# Altium integrated library Vishay Roederstein Electrolytic Snap-In Pins Capacitor.IntLib: 936 symbols (part 13 of 16)
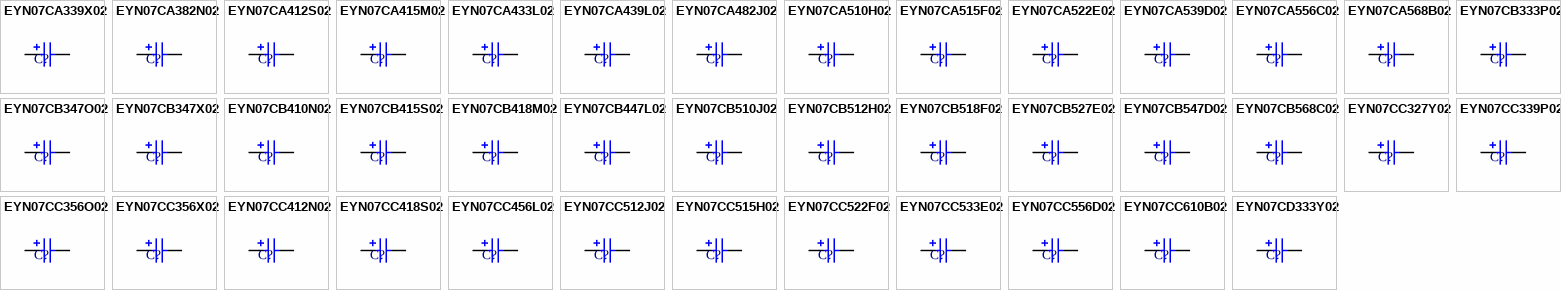
[diagram p35: symbols EYN07CA339X02 to EYN07CD333Y02]

## EYN07CA382N02
designator C?
Aluminum Electrolytic Capacitor, Power Capacitor Style EYN, Snap-in 6mm Solder Pins: 820uF, 250V; PCB_Layout: Complies with Manufacturer's Recommendation.; DrillSize: Nominal, Complies with Manufacturer's Recommendation.; Published: 19-Mar-2004; DatasheetDocument: 4-Feb-2002; PackageReference: CAPPRS10-35X35; Publisher: Altium Limited; ComponentLink1Description: Manufacturer Link; ComponentLink1URL: http://www.vishay.com/; ComponentLink2Description: Datasheet; ComponentLink2URL: http://www.vishay.com/docs/25137/eyn.pdf; Value: 820uF
footprint CAPPRS10-35X35 (Capacitor, Electrolytic, Radial, Snap-In Pins; Body 35 x 35 mm (Dia.xH typ); Pin Spacing 10 mm (typ))
simulation model CAP (Capacitor)
signal-integrity model EYN07CA382N02
pins: 1, 2
1 alternate drawing of the same symbol

## EYN07CA412S02
designator C?
Aluminum Electrolytic Capacitor, Power Capacitor Style EYN, Snap-in 6mm Solder Pins: 1200uF, 200V; PCB_Layout: Complies with Manufacturer's Recommendation.; DrillSize: Nominal, Complies with Manufacturer's Recommendation.; Published: 19-Mar-2004; DatasheetDocument: 4-Feb-2002; PackageReference: CAPPRS10-35X35; Publisher: Altium Limited; ComponentLink1Description: Manufacturer Link; ComponentLink1URL: http://www.vishay.com/; ComponentLink2Description: Datasheet; ComponentLink2URL: http://www.vishay.com/docs/25137/eyn.pdf; Value: 1200uF
footprint CAPPRS10-35X35 (Capacitor, Electrolytic, Radial, Snap-In Pins; Body 35 x 35 mm (Dia.xH typ); Pin Spacing 10 mm (typ))
simulation model CAP (Capacitor)
signal-integrity model EYN07CA412S02
pins: 1, 2
1 alternate drawing of the same symbol

## EYN07CA415M02
designator C?
Aluminum Electrolytic Capacitor, Power Capacitor Style EYN, Snap-in 6mm Solder Pins: 1500uF, 160V; PCB_Layout: Complies with Manufacturer's Recommendation.; DrillSize: Nominal, Complies with Manufacturer's Recommendation.; Published: 19-Mar-2004; DatasheetDocument: 4-Feb-2002; PackageReference: CAPPRS10-35X35; Publisher: Altium Limited; ComponentLink1Description: Manufacturer Link; ComponentLink1URL: http://www.vishay.com/; ComponentLink2Description: Datasheet; ComponentLink2URL: http://www.vishay.com/docs/25137/eyn.pdf; Value: 1500uF
footprint CAPPRS10-35X35 (Capacitor, Electrolytic, Radial, Snap-In Pins; Body 35 x 35 mm (Dia.xH typ); Pin Spacing 10 mm (typ))
simulation model CAP (Capacitor)
signal-integrity model EYN07CA415M02
pins: 1, 2
1 alternate drawing of the same symbol

## EYN07CA433L02
designator C?
Aluminum Electrolytic Capacitor, Power Capacitor Style EYN, Snap-in 6mm Solder Pins: 3300uF, 100V; PCB_Layout: Complies with Manufacturer's Recommendation.; DrillSize: Nominal, Complies with Manufacturer's Recommendation.; Published: 19-Mar-2004; DatasheetDocument: 4-Feb-2002; PackageReference: CAPPRS10-35X35; Publisher: Altium Limited; ComponentLink1Description: Manufacturer Link; ComponentLink1URL: http://www.vishay.com/; ComponentLink2Description: Datasheet; ComponentLink2URL: http://www.vishay.com/docs/25137/eyn.pdf; Value: 3300uF
footprint CAPPRS10-35X35 (Capacitor, Electrolytic, Radial, Snap-In Pins; Body 35 x 35 mm (Dia.xH typ); Pin Spacing 10 mm (typ))
simulation model CAP (Capacitor)
signal-integrity model EYN07CA433L02
pins: 1, 2
1 alternate drawing of the same symbol

## EYN07CA439L02
designator C?
Aluminum Electrolytic Capacitor, Power Capacitor Style EYN, Snap-in 6mm Solder Pins: 3900uF, 100V; PCB_Layout: Complies with Manufacturer's Recommendation.; DrillSize: Nominal, Complies with Manufacturer's Recommendation.; Published: 19-Mar-2004; DatasheetDocument: 4-Feb-2002; PackageReference: CAPPRS10-35X35; Publisher: Altium Limited; ComponentLink1Description: Manufacturer Link; ComponentLink1URL: http://www.vishay.com/; ComponentLink2Description: Datasheet; ComponentLink2URL: http://www.vishay.com/docs/25137/eyn.pdf; Value: 3900uF
footprint CAPPRS10-35X35 (Capacitor, Electrolytic, Radial, Snap-In Pins; Body 35 x 35 mm (Dia.xH typ); Pin Spacing 10 mm (typ))
simulation model CAP (Capacitor)
signal-integrity model EYN07CA439L02
pins: 1, 2
1 alternate drawing of the same symbol

## EYN07CA482J02
designator C?
Aluminum Electrolytic Capacitor, Power Capacitor Style EYN, Snap-in 6mm Solder Pins: 8200uF, 63V; PCB_Layout: Complies with Manufacturer's Recommendation.; DrillSize: Nominal, Complies with Manufacturer's Recommendation.; Published: 19-Mar-2004; DatasheetDocument: 4-Feb-2002; PackageReference: CAPPRS10-35X35; Publisher: Altium Limited; ComponentLink1Description: Manufacturer Link; ComponentLink1URL: http://www.vishay.com/; ComponentLink2Description: Datasheet; ComponentLink2URL: http://www.vishay.com/docs/25137/eyn.pdf; Value: 8200uF
footprint CAPPRS10-35X35 (Capacitor, Electrolytic, Radial, Snap-In Pins; Body 35 x 35 mm (Dia.xH typ); Pin Spacing 10 mm (typ))
simulation model CAP (Capacitor)
signal-integrity model EYN07CA482J02
pins: 1, 2
1 alternate drawing of the same symbol

## EYN07CA510H02
designator C?
Aluminum Electrolytic Capacitor, Power Capacitor Style EYN, Snap-in 6mm Solder Pins: 10000uF, 50V; PCB_Layout: Complies with Manufacturer's Recommendation.; DrillSize: Nominal, Complies with Manufacturer's Recommendation.; Published: 19-Mar-2004; DatasheetDocument: 4-Feb-2002; PackageReference: CAPPRS10-35X35; Publisher: Altium Limited; ComponentLink1Description: Manufacturer Link; ComponentLink1URL: http://www.vishay.com/; ComponentLink2Description: Datasheet; ComponentLink2URL: http://www.vishay.com/docs/25137/eyn.pdf; Value: 10000uF
footprint CAPPRS10-35X35 (Capacitor, Electrolytic, Radial, Snap-In Pins; Body 35 x 35 mm (Dia.xH typ); Pin Spacing 10 mm (typ))
simulation model CAP (Capacitor)
signal-integrity model EYN07CA510H02
pins: 1, 2
1 alternate drawing of the same symbol

## EYN07CA515F02
designator C?
Aluminum Electrolytic Capacitor, Power Capacitor Style EYN, Snap-in 6mm Solder Pins: 15000uF, 35V; PCB_Layout: Complies with Manufacturer's Recommendation.; DrillSize: Nominal, Complies with Manufacturer's Recommendation.; Published: 19-Mar-2004; DatasheetDocument: 4-Feb-2002; PackageReference: CAPPRS10-35X35; Publisher: Altium Limited; ComponentLink1Description: Manufacturer Link; ComponentLink1URL: http://www.vishay.com/; ComponentLink2Description: Datasheet; ComponentLink2URL: http://www.vishay.com/docs/25137/eyn.pdf; Value: 15000uF
footprint CAPPRS10-35X35 (Capacitor, Electrolytic, Radial, Snap-In Pins; Body 35 x 35 mm (Dia.xH typ); Pin Spacing 10 mm (typ))
simulation model CAP (Capacitor)
signal-integrity model EYN07CA515F02
pins: 1, 2
1 alternate drawing of the same symbol

## EYN07CA522E02
designator C?
Aluminum Electrolytic Capacitor, Power Capacitor Style EYN, Snap-in 6mm Solder Pins: 22000uF, 25V; PCB_Layout: Complies with Manufacturer's Recommendation.; DrillSize: Nominal, Complies with Manufacturer's Recommendation.; Published: 19-Mar-2004; DatasheetDocument: 4-Feb-2002; PackageReference: CAPPRS10-35X35; Publisher: Altium Limited; ComponentLink1Description: Manufacturer Link; ComponentLink1URL: http://www.vishay.com/; ComponentLink2Description: Datasheet; ComponentLink2URL: http://www.vishay.com/docs/25137/eyn.pdf; Value: 22000uF
footprint CAPPRS10-35X35 (Capacitor, Electrolytic, Radial, Snap-In Pins; Body 35 x 35 mm (Dia.xH typ); Pin Spacing 10 mm (typ))
simulation model CAP (Capacitor)
signal-integrity model EYN07CA522E02
pins: 1, 2
1 alternate drawing of the same symbol

## EYN07CA539D02
designator C?
Aluminum Electrolytic Capacitor, Power Capacitor Style EYN, Snap-in 6mm Solder Pins: 39000uF, 16V; PCB_Layout: Complies with Manufacturer's Recommendation.; DrillSize: Nominal, Complies with Manufacturer's Recommendation.; Published: 19-Mar-2004; DatasheetDocument: 4-Feb-2002; PackageReference: CAPPRS10-35X35; Publisher: Altium Limited; ComponentLink1Description: Manufacturer Link; ComponentLink1URL: http://www.vishay.com/; ComponentLink2Description: Datasheet; ComponentLink2URL: http://www.vishay.com/docs/25137/eyn.pdf; Value: 39000uF
footprint CAPPRS10-35X35 (Capacitor, Electrolytic, Radial, Snap-In Pins; Body 35 x 35 mm (Dia.xH typ); Pin Spacing 10 mm (typ))
simulation model CAP (Capacitor)
signal-integrity model EYN07CA539D02
pins: 1, 2
1 alternate drawing of the same symbol

## EYN07CA556C02
designator C?
Aluminum Electrolytic Capacitor, Power Capacitor Style EYN, Snap-in 6mm Solder Pins: 56000uF, 10V; PCB_Layout: Complies with Manufacturer's Recommendation.; DrillSize: Nominal, Complies with Manufacturer's Recommendation.; Published: 19-Mar-2004; DatasheetDocument: 4-Feb-2002; PackageReference: CAPPRS10-35X35; Publisher: Altium Limited; ComponentLink1Description: Manufacturer Link; ComponentLink1URL: http://www.vishay.com/; ComponentLink2Description: Datasheet; ComponentLink2URL: http://www.vishay.com/docs/25137/eyn.pdf; Value: 56000uF
footprint CAPPRS10-35X35 (Capacitor, Electrolytic, Radial, Snap-In Pins; Body 35 x 35 mm (Dia.xH typ); Pin Spacing 10 mm (typ))
simulation model CAP (Capacitor)
signal-integrity model EYN07CA556C02
pins: 1, 2
1 alternate drawing of the same symbol

## EYN07CA568B02
designator C?
Aluminum Electrolytic Capacitor, Power Capacitor Style EYN, Snap-in 6mm Solder Pins: 68000uF, 6.3V; PCB_Layout: Complies with Manufacturer's Recommendation.; DrillSize: Nominal, Complies with Manufacturer's Recommendation.; Published: 19-Mar-2004; DatasheetDocument: 4-Feb-2002; PackageReference: CAPPRS10-35X35; Publisher: Altium Limited; ComponentLink1Description: Manufacturer Link; ComponentLink1URL: http://www.vishay.com/; ComponentLink2Description: Datasheet; ComponentLink2URL: http://www.vishay.com/docs/25137/eyn.pdf; Value: 68000uF
footprint CAPPRS10-35X35 (Capacitor, Electrolytic, Radial, Snap-In Pins; Body 35 x 35 mm (Dia.xH typ); Pin Spacing 10 mm (typ))
simulation model CAP (Capacitor)
signal-integrity model EYN07CA568B02
pins: 1, 2
1 alternate drawing of the same symbol

## EYN07CB333P02
designator C?
Aluminum Electrolytic Capacitor, Power Capacitor Style EYN, Snap-in 6mm Solder Pins: 330uF, 450V; PCB_Layout: Complies with Manufacturer's Recommendation.; DrillSize: Nominal, Complies with Manufacturer's Recommendation.; Published: 19-Mar-2004; DatasheetDocument: 4-Feb-2002; PackageReference: CAPPRS10-35X40; Publisher: Altium Limited; ComponentLink1Description: Manufacturer Link; ComponentLink1URL: http://www.vishay.com/; ComponentLink2Description: Datasheet; ComponentLink2URL: http://www.vishay.com/docs/25137/eyn.pdf; Value: 330uF
footprint CAPPRS10-35X40 (Capacitor, Electrolytic, Radial, Snap-In Pins; Body 35 x 40 mm (Dia.xH typ); Pin Spacing 10 mm (typ))
simulation model CAP (Capacitor)
signal-integrity model EYN07CB333P02
pins: 1, 2
1 alternate drawing of the same symbol

## EYN07CB347O02
designator C?
Aluminum Electrolytic Capacitor, Power Capacitor Style EYN, Snap-in 6mm Solder Pins: 470uF, 350V; PCB_Layout: Complies with Manufacturer's Recommendation.; DrillSize: Nominal, Complies with Manufacturer's Recommendation.; Published: 19-Mar-2004; DatasheetDocument: 4-Feb-2002; PackageReference: CAPPRS10-35X40; Publisher: Altium Limited; ComponentLink1Description: Manufacturer Link; ComponentLink1URL: http://www.vishay.com/; ComponentLink2Description: Datasheet; ComponentLink2URL: http://www.vishay.com/docs/25137/eyn.pdf; Value: 470uF
footprint CAPPRS10-35X40 (Capacitor, Electrolytic, Radial, Snap-In Pins; Body 35 x 40 mm (Dia.xH typ); Pin Spacing 10 mm (typ))
simulation model CAP (Capacitor)
signal-integrity model EYN07CB347O02
pins: 1, 2
1 alternate drawing of the same symbol

## EYN07CB347X02
designator C?
Aluminum Electrolytic Capacitor, Power Capacitor Style EYN, Snap-in 6mm Solder Pins: 470uF, 400V; PCB_Layout: Complies with Manufacturer's Recommendation.; DrillSize: Nominal, Complies with Manufacturer's Recommendation.; Published: 19-Mar-2004; DatasheetDocument: 4-Feb-2002; PackageReference: CAPPRS10-35X40; Publisher: Altium Limited; ComponentLink1Description: Manufacturer Link; ComponentLink1URL: http://www.vishay.com/; ComponentLink2Description: Datasheet; ComponentLink2URL: http://www.vishay.com/docs/25137/eyn.pdf; Value: 470uF
footprint CAPPRS10-35X40 (Capacitor, Electrolytic, Radial, Snap-In Pins; Body 35 x 40 mm (Dia.xH typ); Pin Spacing 10 mm (typ))
simulation model CAP (Capacitor)
signal-integrity model EYN07CB347X02
pins: 1, 2
1 alternate drawing of the same symbol

## EYN07CB410N02
designator C?
Aluminum Electrolytic Capacitor, Power Capacitor Style EYN, Snap-in 6mm Solder Pins: 1000uF, 250V; PCB_Layout: Complies with Manufacturer's Recommendation.; DrillSize: Nominal, Complies with Manufacturer's Recommendation.; Published: 19-Mar-2004; DatasheetDocument: 4-Feb-2002; PackageReference: CAPPRS10-35X40; Publisher: Altium Limited; ComponentLink1Description: Manufacturer Link; ComponentLink1URL: http://www.vishay.com/; ComponentLink2Description: Datasheet; ComponentLink2URL: http://www.vishay.com/docs/25137/eyn.pdf; Value: 1000uF
footprint CAPPRS10-35X40 (Capacitor, Electrolytic, Radial, Snap-In Pins; Body 35 x 40 mm (Dia.xH typ); Pin Spacing 10 mm (typ))
simulation model CAP (Capacitor)
signal-integrity model EYN07CB410N02
pins: 1, 2
1 alternate drawing of the same symbol

## EYN07CB415S02
designator C?
Aluminum Electrolytic Capacitor, Power Capacitor Style EYN, Snap-in 6mm Solder Pins: 1500uF, 200V; PCB_Layout: Complies with Manufacturer's Recommendation.; DrillSize: Nominal, Complies with Manufacturer's Recommendation.; Published: 19-Mar-2004; DatasheetDocument: 4-Feb-2002; PackageReference: CAPPRS10-35X40; Publisher: Altium Limited; ComponentLink1Description: Manufacturer Link; ComponentLink1URL: http://www.vishay.com/; ComponentLink2Description: Datasheet; ComponentLink2URL: http://www.vishay.com/docs/25137/eyn.pdf; Value: 1500uF
footprint CAPPRS10-35X40 (Capacitor, Electrolytic, Radial, Snap-In Pins; Body 35 x 40 mm (Dia.xH typ); Pin Spacing 10 mm (typ))
simulation model CAP (Capacitor)
signal-integrity model EYN07CB415S02
pins: 1, 2
1 alternate drawing of the same symbol

## EYN07CB418M02
designator C?
Aluminum Electrolytic Capacitor, Power Capacitor Style EYN, Snap-in 6mm Solder Pins: 1800uF, 160V; PCB_Layout: Complies with Manufacturer's Recommendation.; DrillSize: Nominal, Complies with Manufacturer's Recommendation.; Published: 19-Mar-2004; DatasheetDocument: 4-Feb-2002; PackageReference: CAPPRS10-35X40; Publisher: Altium Limited; ComponentLink1Description: Manufacturer Link; ComponentLink1URL: http://www.vishay.com/; ComponentLink2Description: Datasheet; ComponentLink2URL: http://www.vishay.com/docs/25137/eyn.pdf; Value: 1800uF
footprint CAPPRS10-35X40 (Capacitor, Electrolytic, Radial, Snap-In Pins; Body 35 x 40 mm (Dia.xH typ); Pin Spacing 10 mm (typ))
simulation model CAP (Capacitor)
signal-integrity model EYN07CB418M02
pins: 1, 2
1 alternate drawing of the same symbol

## EYN07CB447L02
designator C?
Aluminum Electrolytic Capacitor, Power Capacitor Style EYN, Snap-in 6mm Solder Pins: 4700uF, 100V; PCB_Layout: Complies with Manufacturer's Recommendation.; DrillSize: Nominal, Complies with Manufacturer's Recommendation.; Published: 19-Mar-2004; DatasheetDocument: 4-Feb-2002; PackageReference: CAPPRS10-35X40; Publisher: Altium Limited; ComponentLink1Description: Manufacturer Link; ComponentLink1URL: http://www.vishay.com/; ComponentLink2Description: Datasheet; ComponentLink2URL: http://www.vishay.com/docs/25137/eyn.pdf; Value: 4700uF
footprint CAPPRS10-35X40 (Capacitor, Electrolytic, Radial, Snap-In Pins; Body 35 x 40 mm (Dia.xH typ); Pin Spacing 10 mm (typ))
simulation model CAP (Capacitor)
signal-integrity model EYN07CB447L02
pins: 1, 2
1 alternate drawing of the same symbol

## EYN07CB510J02
designator C?
Aluminum Electrolytic Capacitor, Power Capacitor Style EYN, Snap-in 6mm Solder Pins: 10000uF, 63V; PCB_Layout: Complies with Manufacturer's Recommendation.; DrillSize: Nominal, Complies with Manufacturer's Recommendation.; Published: 19-Mar-2004; DatasheetDocument: 4-Feb-2002; PackageReference: CAPPRS10-35X40; Publisher: Altium Limited; ComponentLink1Description: Manufacturer Link; ComponentLink1URL: http://www.vishay.com/; ComponentLink2Description: Datasheet; ComponentLink2URL: http://www.vishay.com/docs/25137/eyn.pdf; Value: 10000uF
footprint CAPPRS10-35X40 (Capacitor, Electrolytic, Radial, Snap-In Pins; Body 35 x 40 mm (Dia.xH typ); Pin Spacing 10 mm (typ))
simulation model CAP (Capacitor)
signal-integrity model EYN07CB510J02
pins: 1, 2
1 alternate drawing of the same symbol

## EYN07CB512H02
designator C?
Aluminum Electrolytic Capacitor, Power Capacitor Style EYN, Snap-in 6mm Solder Pins: 12000uF, 50V; PCB_Layout: Complies with Manufacturer's Recommendation.; DrillSize: Nominal, Complies with Manufacturer's Recommendation.; Published: 19-Mar-2004; DatasheetDocument: 4-Feb-2002; PackageReference: CAPPRS10-35X40; Publisher: Altium Limited; ComponentLink1Description: Manufacturer Link; ComponentLink1URL: http://www.vishay.com/; ComponentLink2Description: Datasheet; ComponentLink2URL: http://www.vishay.com/docs/25137/eyn.pdf; Value: 12000uF
footprint CAPPRS10-35X40 (Capacitor, Electrolytic, Radial, Snap-In Pins; Body 35 x 40 mm (Dia.xH typ); Pin Spacing 10 mm (typ))
simulation model CAP (Capacitor)
signal-integrity model EYN07CB512H02
pins: 1, 2
1 alternate drawing of the same symbol

## EYN07CB518F02
designator C?
Aluminum Electrolytic Capacitor, Power Capacitor Style EYN, Snap-in 6mm Solder Pins: 18000uF, 35V; PCB_Layout: Complies with Manufacturer's Recommendation.; DrillSize: Nominal, Complies with Manufacturer's Recommendation.; Published: 19-Mar-2004; DatasheetDocument: 4-Feb-2002; PackageReference: CAPPRS10-35X40; Publisher: Altium Limited; ComponentLink1Description: Manufacturer Link; ComponentLink1URL: http://www.vishay.com/; ComponentLink2Description: Datasheet; ComponentLink2URL: http://www.vishay.com/docs/25137/eyn.pdf; Value: 18000uF
footprint CAPPRS10-35X40 (Capacitor, Electrolytic, Radial, Snap-In Pins; Body 35 x 40 mm (Dia.xH typ); Pin Spacing 10 mm (typ))
simulation model CAP (Capacitor)
signal-integrity model EYN07CB518F02
pins: 1, 2
1 alternate drawing of the same symbol

## EYN07CB527E02
designator C?
Aluminum Electrolytic Capacitor, Power Capacitor Style EYN, Snap-in 6mm Solder Pins: 27000uF, 25V; PCB_Layout: Complies with Manufacturer's Recommendation.; DrillSize: Nominal, Complies with Manufacturer's Recommendation.; Published: 19-Mar-2004; DatasheetDocument: 4-Feb-2002; PackageReference: CAPPRS10-35X40; Publisher: Altium Limited; ComponentLink1Description: Manufacturer Link; ComponentLink1URL: http://www.vishay.com/; ComponentLink2Description: Datasheet; ComponentLink2URL: http://www.vishay.com/docs/25137/eyn.pdf; Value: 27000uF
footprint CAPPRS10-35X40 (Capacitor, Electrolytic, Radial, Snap-In Pins; Body 35 x 40 mm (Dia.xH typ); Pin Spacing 10 mm (typ))
simulation model CAP (Capacitor)
signal-integrity model EYN07CB527E02
pins: 1, 2
1 alternate drawing of the same symbol

## EYN07CB547D02
designator C?
Aluminum Electrolytic Capacitor, Power Capacitor Style EYN, Snap-in 6mm Solder Pins: 47000uF, 16V; PCB_Layout: Complies with Manufacturer's Recommendation.; DrillSize: Nominal, Complies with Manufacturer's Recommendation.; Published: 19-Mar-2004; DatasheetDocument: 4-Feb-2002; PackageReference: CAPPRS10-35X40; Publisher: Altium Limited; ComponentLink1Description: Manufacturer Link; ComponentLink1URL: http://www.vishay.com/; ComponentLink2Description: Datasheet; ComponentLink2URL: http://www.vishay.com/docs/25137/eyn.pdf; Value: 47000uF
footprint CAPPRS10-35X40 (Capacitor, Electrolytic, Radial, Snap-In Pins; Body 35 x 40 mm (Dia.xH typ); Pin Spacing 10 mm (typ))
simulation model CAP (Capacitor)
signal-integrity model EYN07CB547D02
pins: 1, 2
1 alternate drawing of the same symbol

## EYN07CB568C02
designator C?
Aluminum Electrolytic Capacitor, Power Capacitor Style EYN, Snap-in 6mm Solder Pins: 68000uF, 10V; PCB_Layout: Complies with Manufacturer's Recommendation.; DrillSize: Nominal, Complies with Manufacturer's Recommendation.; Published: 19-Mar-2004; DatasheetDocument: 4-Feb-2002; PackageReference: CAPPRS10-35X40; Publisher: Altium Limited; ComponentLink1Description: Manufacturer Link; ComponentLink1URL: http://www.vishay.com/; ComponentLink2Description: Datasheet; ComponentLink2URL: http://www.vishay.com/docs/25137/eyn.pdf; Value: 68000uF
footprint CAPPRS10-35X40 (Capacitor, Electrolytic, Radial, Snap-In Pins; Body 35 x 40 mm (Dia.xH typ); Pin Spacing 10 mm (typ))
simulation model CAP (Capacitor)
signal-integrity model EYN07CB568C02
pins: 1, 2
1 alternate drawing of the same symbol

## EYN07CC327Y02
designator C?
Aluminum Electrolytic Capacitor, Power Capacitor Style EYN, Snap-in 6mm Solder Pins: 270uF, 500V; PCB_Layout: Complies with Manufacturer's Recommendation.; DrillSize: Nominal, Complies with Manufacturer's Recommendation.; Published: 19-Mar-2004; DatasheetDocument: 4-Feb-2002; PackageReference: CAPPRS10-35X45; Publisher: Altium Limited; ComponentLink1Description: Manufacturer Link; ComponentLink1URL: http://www.vishay.com/; ComponentLink2Description: Datasheet; ComponentLink2URL: http://www.vishay.com/docs/25137/eyn.pdf; Value: 270uF
footprint CAPPRS10-35X45 (Capacitor, Electrolytic, Radial, Snap-In Pins; Body 35 x 45 mm (Dia.xH typ); Pin Spacing 10 mm (typ))
simulation model CAP (Capacitor)
signal-integrity model EYN07CC327Y02
pins: 1, 2
1 alternate drawing of the same symbol

## EYN07CC339P02
designator C?
Aluminum Electrolytic Capacitor, Power Capacitor Style EYN, Snap-in 6mm Solder Pins: 390uF, 450V; PCB_Layout: Complies with Manufacturer's Recommendation.; DrillSize: Nominal, Complies with Manufacturer's Recommendation.; Published: 19-Mar-2004; DatasheetDocument: 4-Feb-2002; PackageReference: CAPPRS10-35X45; Publisher: Altium Limited; ComponentLink1Description: Manufacturer Link; ComponentLink1URL: http://www.vishay.com/; ComponentLink2Description: Datasheet; ComponentLink2URL: http://www.vishay.com/docs/25137/eyn.pdf; Value: 390uF
footprint CAPPRS10-35X45 (Capacitor, Electrolytic, Radial, Snap-In Pins; Body 35 x 45 mm (Dia.xH typ); Pin Spacing 10 mm (typ))
simulation model CAP (Capacitor)
signal-integrity model EYN07CC339P02
pins: 1, 2
1 alternate drawing of the same symbol

## EYN07CC356O02
designator C?
Aluminum Electrolytic Capacitor, Power Capacitor Style EYN, Snap-in 6mm Solder Pins: 560uF, 350V; PCB_Layout: Complies with Manufacturer's Recommendation.; DrillSize: Nominal, Complies with Manufacturer's Recommendation.; Published: 19-Mar-2004; DatasheetDocument: 4-Feb-2002; PackageReference: CAPPRS10-35X45; Publisher: Altium Limited; ComponentLink1Description: Manufacturer Link; ComponentLink1URL: http://www.vishay.com/; ComponentLink2Description: Datasheet; ComponentLink2URL: http://www.vishay.com/docs/25137/eyn.pdf; Value: 560uF
footprint CAPPRS10-35X45 (Capacitor, Electrolytic, Radial, Snap-In Pins; Body 35 x 45 mm (Dia.xH typ); Pin Spacing 10 mm (typ))
simulation model CAP (Capacitor)
signal-integrity model EYN07CC356O02
pins: 1, 2
1 alternate drawing of the same symbol

## EYN07CC356X02
designator C?
Aluminum Electrolytic Capacitor, Power Capacitor Style EYN, Snap-in 6mm Solder Pins: 560uF, 400V; PCB_Layout: Complies with Manufacturer's Recommendation.; DrillSize: Nominal, Complies with Manufacturer's Recommendation.; Published: 19-Mar-2004; DatasheetDocument: 4-Feb-2002; PackageReference: CAPPRS10-35X45; Publisher: Altium Limited; ComponentLink1Description: Manufacturer Link; ComponentLink1URL: http://www.vishay.com/; ComponentLink2Description: Datasheet; ComponentLink2URL: http://www.vishay.com/docs/25137/eyn.pdf; Value: 560uF
footprint CAPPRS10-35X45 (Capacitor, Electrolytic, Radial, Snap-In Pins; Body 35 x 45 mm (Dia.xH typ); Pin Spacing 10 mm (typ))
simulation model CAP (Capacitor)
signal-integrity model EYN07CC356X02
pins: 1, 2
1 alternate drawing of the same symbol

## EYN07CC412N02
designator C?
Aluminum Electrolytic Capacitor, Power Capacitor Style EYN, Snap-in 6mm Solder Pins: 1200uF, 250V; PCB_Layout: Complies with Manufacturer's Recommendation.; DrillSize: Nominal, Complies with Manufacturer's Recommendation.; Published: 19-Mar-2004; DatasheetDocument: 4-Feb-2002; PackageReference: CAPPRS10-35X45; Publisher: Altium Limited; ComponentLink1Description: Manufacturer Link; ComponentLink1URL: http://www.vishay.com/; ComponentLink2Description: Datasheet; ComponentLink2URL: http://www.vishay.com/docs/25137/eyn.pdf; Value: 1200uF
footprint CAPPRS10-35X45 (Capacitor, Electrolytic, Radial, Snap-In Pins; Body 35 x 45 mm (Dia.xH typ); Pin Spacing 10 mm (typ))
simulation model CAP (Capacitor)
signal-integrity model EYN07CC412N02
pins: 1, 2
1 alternate drawing of the same symbol

## EYN07CC418S02
designator C?
Aluminum Electrolytic Capacitor, Power Capacitor Style EYN, Snap-in 6mm Solder Pins: 1800uF, 200V; PCB_Layout: Complies with Manufacturer's Recommendation.; DrillSize: Nominal, Complies with Manufacturer's Recommendation.; Published: 19-Mar-2004; DatasheetDocument: 4-Feb-2002; PackageReference: CAPPRS10-35X45; Publisher: Altium Limited; ComponentLink1Description: Manufacturer Link; ComponentLink1URL: http://www.vishay.com/; ComponentLink2Description: Datasheet; ComponentLink2URL: http://www.vishay.com/docs/25137/eyn.pdf; Value: 1800uF
footprint CAPPRS10-35X45 (Capacitor, Electrolytic, Radial, Snap-In Pins; Body 35 x 45 mm (Dia.xH typ); Pin Spacing 10 mm (typ))
simulation model CAP (Capacitor)
signal-integrity model EYN07CC418S02
pins: 1, 2
1 alternate drawing of the same symbol

## EYN07CC456L02
designator C?
Aluminum Electrolytic Capacitor, Power Capacitor Style EYN, Snap-in 6mm Solder Pins: 5600uF, 100V; PCB_Layout: Complies with Manufacturer's Recommendation.; DrillSize: Nominal, Complies with Manufacturer's Recommendation.; Published: 19-Mar-2004; DatasheetDocument: 4-Feb-2002; PackageReference: CAPPRS10-35X45; Publisher: Altium Limited; ComponentLink1Description: Manufacturer Link; ComponentLink1URL: http://www.vishay.com/; ComponentLink2Description: Datasheet; ComponentLink2URL: http://www.vishay.com/docs/25137/eyn.pdf; Value: 5600uF
footprint CAPPRS10-35X45 (Capacitor, Electrolytic, Radial, Snap-In Pins; Body 35 x 45 mm (Dia.xH typ); Pin Spacing 10 mm (typ))
simulation model CAP (Capacitor)
signal-integrity model EYN07CC456L02
pins: 1, 2
1 alternate drawing of the same symbol

## EYN07CC512J02
designator C?
Aluminum Electrolytic Capacitor, Power Capacitor Style EYN, Snap-in 6mm Solder Pins: 12000uF, 63V; PCB_Layout: Complies with Manufacturer's Recommendation.; DrillSize: Nominal, Complies with Manufacturer's Recommendation.; Published: 19-Mar-2004; DatasheetDocument: 4-Feb-2002; PackageReference: CAPPRS10-35X45; Publisher: Altium Limited; ComponentLink1Description: Manufacturer Link; ComponentLink1URL: http://www.vishay.com/; ComponentLink2Description: Datasheet; ComponentLink2URL: http://www.vishay.com/docs/25137/eyn.pdf; Value: 12000uF
footprint CAPPRS10-35X45 (Capacitor, Electrolytic, Radial, Snap-In Pins; Body 35 x 45 mm (Dia.xH typ); Pin Spacing 10 mm (typ))
simulation model CAP (Capacitor)
signal-integrity model EYN07CC512J02
pins: 1, 2
1 alternate drawing of the same symbol

## EYN07CC515H02
designator C?
Aluminum Electrolytic Capacitor, Power Capacitor Style EYN, Snap-in 6mm Solder Pins: 15000uF, 50V; PCB_Layout: Complies with Manufacturer's Recommendation.; DrillSize: Nominal, Complies with Manufacturer's Recommendation.; Published: 19-Mar-2004; DatasheetDocument: 4-Feb-2002; PackageReference: CAPPRS10-35X45; Publisher: Altium Limited; ComponentLink1Description: Manufacturer Link; ComponentLink1URL: http://www.vishay.com/; ComponentLink2Description: Datasheet; ComponentLink2URL: http://www.vishay.com/docs/25137/eyn.pdf; Value: 15000uF
footprint CAPPRS10-35X45 (Capacitor, Electrolytic, Radial, Snap-In Pins; Body 35 x 45 mm (Dia.xH typ); Pin Spacing 10 mm (typ))
simulation model CAP (Capacitor)
signal-integrity model EYN07CC515H02
pins: 1, 2
1 alternate drawing of the same symbol

## EYN07CC522F02
designator C?
Aluminum Electrolytic Capacitor, Power Capacitor Style EYN, Snap-in 6mm Solder Pins: 22000uF, 35V; PCB_Layout: Complies with Manufacturer's Recommendation.; DrillSize: Nominal, Complies with Manufacturer's Recommendation.; Published: 19-Mar-2004; DatasheetDocument: 4-Feb-2002; PackageReference: CAPPRS10-35X45; Publisher: Altium Limited; ComponentLink1Description: Manufacturer Link; ComponentLink1URL: http://www.vishay.com/; ComponentLink2Description: Datasheet; ComponentLink2URL: http://www.vishay.com/docs/25137/eyn.pdf; Value: 22000uF
footprint CAPPRS10-35X45 (Capacitor, Electrolytic, Radial, Snap-In Pins; Body 35 x 45 mm (Dia.xH typ); Pin Spacing 10 mm (typ))
simulation model CAP (Capacitor)
signal-integrity model EYN07CC522F02
pins: 1, 2
1 alternate drawing of the same symbol

## EYN07CC533E02
designator C?
Aluminum Electrolytic Capacitor, Power Capacitor Style EYN, Snap-in 6mm Solder Pins: 33000uF, 25V; PCB_Layout: Complies with Manufacturer's Recommendation.; DrillSize: Nominal, Complies with Manufacturer's Recommendation.; Published: 19-Mar-2004; DatasheetDocument: 4-Feb-2002; PackageReference: CAPPRS10-35X45; Publisher: Altium Limited; ComponentLink1Description: Manufacturer Link; ComponentLink1URL: http://www.vishay.com/; ComponentLink2Description: Datasheet; ComponentLink2URL: http://www.vishay.com/docs/25137/eyn.pdf; Value: 33000uF
footprint CAPPRS10-35X45 (Capacitor, Electrolytic, Radial, Snap-In Pins; Body 35 x 45 mm (Dia.xH typ); Pin Spacing 10 mm (typ))
simulation model CAP (Capacitor)
signal-integrity model EYN07CC533E02
pins: 1, 2
1 alternate drawing of the same symbol

## EYN07CC556D02
designator C?
Aluminum Electrolytic Capacitor, Power Capacitor Style EYN, Snap-in 6mm Solder Pins: 56000uF, 16V; PCB_Layout: Complies with Manufacturer's Recommendation.; DrillSize: Nominal, Complies with Manufacturer's Recommendation.; Published: 19-Mar-2004; DatasheetDocument: 4-Feb-2002; PackageReference: CAPPRS10-35X45; Publisher: Altium Limited; ComponentLink1Description: Manufacturer Link; ComponentLink1URL: http://www.vishay.com/; ComponentLink2Description: Datasheet; ComponentLink2URL: http://www.vishay.com/docs/25137/eyn.pdf; Value: 56000uF
footprint CAPPRS10-35X45 (Capacitor, Electrolytic, Radial, Snap-In Pins; Body 35 x 45 mm (Dia.xH typ); Pin Spacing 10 mm (typ))
simulation model CAP (Capacitor)
signal-integrity model EYN07CC556D02
pins: 1, 2
1 alternate drawing of the same symbol

## EYN07CC610B02
designator C?
Aluminum Electrolytic Capacitor, Power Capacitor Style EYN, Snap-in 6mm Solder Pins: 100000uF, 6.3V; PCB_Layout: Complies with Manufacturer's Recommendation.; DrillSize: Nominal, Complies with Manufacturer's Recommendation.; Published: 19-Mar-2004; DatasheetDocument: 4-Feb-2002; PackageReference: CAPPRS10-35X40; Publisher: Altium Limited; ComponentLink1Description: Manufacturer Link; ComponentLink1URL: http://www.vishay.com/; ComponentLink2Description: Datasheet; ComponentLink2URL: http://www.vishay.com/docs/25137/eyn.pdf; Value: 100000uF
footprint CAPPRS10-35X40 (Capacitor, Electrolytic, Radial, Snap-In Pins; Body 35 x 40 mm (Dia.xH typ); Pin Spacing 10 mm (typ))
simulation model CAP (Capacitor)
signal-integrity model EYN07CC610B02
pins: 1, 2
1 alternate drawing of the same symbol

## EYN07CD333Y02
designator C?
Aluminum Electrolytic Capacitor, Power Capacitor Style EYN, Snap-in 6mm Solder Pins: 330uF, 500V; PCB_Layout: Complies with Manufacturer's Recommendation.; DrillSize: Nominal, Complies with Manufacturer's Recommendation.; Published: 19-Mar-2004; DatasheetDocument: 4-Feb-2002; PackageReference: CAPPRS10-35X50; Publisher: Altium Limited; ComponentLink1Description: Manufacturer Link; ComponentLink1URL: http://www.vishay.com/; ComponentLink2Description: Datasheet; ComponentLink2URL: http://www.vishay.com/docs/25137/eyn.pdf; Value: 330uF
footprint CAPPRS10-35X50 (Capacitor, Electrolytic, Radial, Snap-In Pins; Body 35 x 50 mm (Dia.xH typ); Pin Spacing 10 mm (typ))
simulation model CAP (Capacitor)
signal-integrity model EYN07CD333Y02
pins: 1, 2
1 alternate drawing of the same symbol

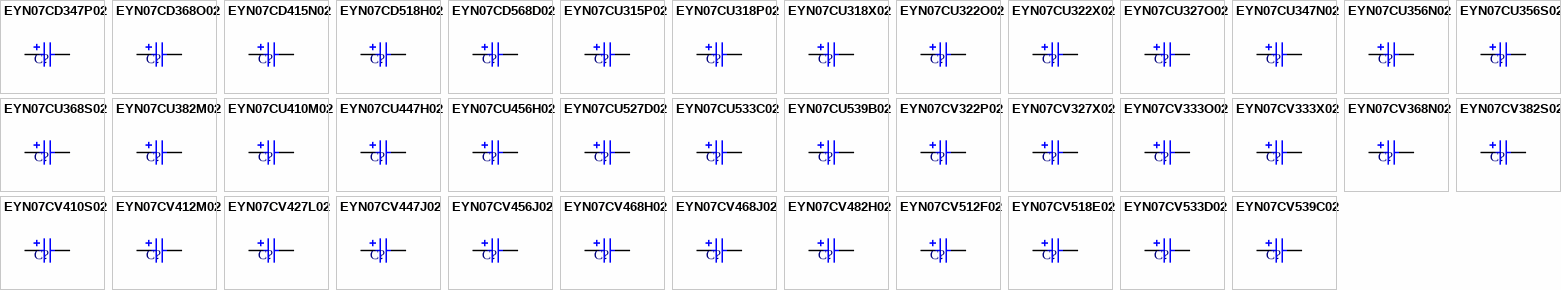
[diagram p19: symbols EYN07CD347P02 to EYN07CV539C02]

## EYN07CD347P02
designator C?
Aluminum Electrolytic Capacitor, Power Capacitor Style EYN, Snap-in 6mm Solder Pins: 470uF, 450V; PCB_Layout: Complies with Manufacturer's Recommendation.; DrillSize: Nominal, Complies with Manufacturer's Recommendation.; Published: 19-Mar-2004; DatasheetDocument: 4-Feb-2002; PackageReference: CAPPRS10-35X50; Publisher: Altium Limited; ComponentLink1Description: Manufacturer Link; ComponentLink1URL: http://www.vishay.com/; ComponentLink2Description: Datasheet; ComponentLink2URL: http://www.vishay.com/docs/25137/eyn.pdf; Value: 470uF
footprint CAPPRS10-35X50 (Capacitor, Electrolytic, Radial, Snap-In Pins; Body 35 x 50 mm (Dia.xH typ); Pin Spacing 10 mm (typ))
simulation model CAP (Capacitor)
signal-integrity model EYN07CD347P02
pins: 1, 2
1 alternate drawing of the same symbol

## EYN07CD368O02
designator C?
Aluminum Electrolytic Capacitor, Power Capacitor Style EYN, Snap-in 6mm Solder Pins: 680uF, 350V; PCB_Layout: Complies with Manufacturer's Recommendation.; DrillSize: Nominal, Complies with Manufacturer's Recommendation.; Published: 19-Mar-2004; DatasheetDocument: 4-Feb-2002; PackageReference: CAPPRS10-35X50; Publisher: Altium Limited; ComponentLink1Description: Manufacturer Link; ComponentLink1URL: http://www.vishay.com/; ComponentLink2Description: Datasheet; ComponentLink2URL: http://www.vishay.com/docs/25137/eyn.pdf; Value: 680uF
footprint CAPPRS10-35X50 (Capacitor, Electrolytic, Radial, Snap-In Pins; Body 35 x 50 mm (Dia.xH typ); Pin Spacing 10 mm (typ))
simulation model CAP (Capacitor)
signal-integrity model EYN07CD368O02
pins: 1, 2
1 alternate drawing of the same symbol

## EYN07CD415N02
designator C?
Aluminum Electrolytic Capacitor, Power Capacitor Style EYN, Snap-in 6mm Solder Pins: 1500uF, 250V; PCB_Layout: Complies with Manufacturer's Recommendation.; DrillSize: Nominal, Complies with Manufacturer's Recommendation.; Published: 19-Mar-2004; DatasheetDocument: 4-Feb-2002; PackageReference: CAPPRS10-35X50; Publisher: Altium Limited; ComponentLink1Description: Manufacturer Link; ComponentLink1URL: http://www.vishay.com/; ComponentLink2Description: Datasheet; ComponentLink2URL: http://www.vishay.com/docs/25137/eyn.pdf; Value: 1500uF
footprint CAPPRS10-35X50 (Capacitor, Electrolytic, Radial, Snap-In Pins; Body 35 x 50 mm (Dia.xH typ); Pin Spacing 10 mm (typ))
simulation model CAP (Capacitor)
signal-integrity model EYN07CD415N02
pins: 1, 2
1 alternate drawing of the same symbol

## EYN07CD518H02
designator C?
Aluminum Electrolytic Capacitor, Power Capacitor Style EYN, Snap-in 6mm Solder Pins: 18000uF, 50V; PCB_Layout: Complies with Manufacturer's Recommendation.; DrillSize: Nominal, Complies with Manufacturer's Recommendation.; Published: 19-Mar-2004; DatasheetDocument: 4-Feb-2002; PackageReference: CAPPRS10-35X50; Publisher: Altium Limited; ComponentLink1Description: Manufacturer Link; ComponentLink1URL: http://www.vishay.com/; ComponentLink2Description: Datasheet; ComponentLink2URL: http://www.vishay.com/docs/25137/eyn.pdf; Value: 18000uF
footprint CAPPRS10-35X50 (Capacitor, Electrolytic, Radial, Snap-In Pins; Body 35 x 50 mm (Dia.xH typ); Pin Spacing 10 mm (typ))
simulation model CAP (Capacitor)
signal-integrity model EYN07CD518H02
pins: 1, 2
1 alternate drawing of the same symbol

## EYN07CD568D02
designator C?
Aluminum Electrolytic Capacitor, Power Capacitor Style EYN, Snap-in 6mm Solder Pins: 68000uF, 16V; PCB_Layout: Complies with Manufacturer's Recommendation.; DrillSize: Nominal, Complies with Manufacturer's Recommendation.; Published: 19-Mar-2004; DatasheetDocument: 4-Feb-2002; PackageReference: CAPPRS10-35X50; Publisher: Altium Limited; ComponentLink1Description: Manufacturer Link; ComponentLink1URL: http://www.vishay.com/; ComponentLink2Description: Datasheet; ComponentLink2URL: http://www.vishay.com/docs/25137/eyn.pdf; Value: 68000uF
footprint CAPPRS10-35X50 (Capacitor, Electrolytic, Radial, Snap-In Pins; Body 35 x 50 mm (Dia.xH typ); Pin Spacing 10 mm (typ))
simulation model CAP (Capacitor)
signal-integrity model EYN07CD568D02
pins: 1, 2
1 alternate drawing of the same symbol

## EYN07CU315P02
designator C?
Aluminum Electrolytic Capacitor, Power Capacitor Style EYN, Snap-in 6mm Solder Pins: 150uF, 450V; PCB_Layout: Complies with Manufacturer's Recommendation.; DrillSize: Nominal, Complies with Manufacturer's Recommendation.; Published: 19-Mar-2004; DatasheetDocument: 4-Feb-2002; PackageReference: CAPPRS10-35X25; Publisher: Altium Limited; ComponentLink1Description: Manufacturer Link; ComponentLink1URL: http://www.vishay.com/; ComponentLink2Description: Datasheet; ComponentLink2URL: http://www.vishay.com/docs/25137/eyn.pdf; Value: 150uF
footprint CAPPRS10-35X25 (Capacitor, Electrolytic, Radial, Snap-In Pins; Body 35 x 25 mm (Dia.xH typ); Pin Spacing 10 mm (typ))
simulation model CAP (Capacitor)
signal-integrity model EYN07CU315P02
pins: 1, 2
1 alternate drawing of the same symbol

## EYN07CU318P02
designator C?
Aluminum Electrolytic Capacitor, Power Capacitor Style EYN, Snap-in 6mm Solder Pins: 180uF, 450V; PCB_Layout: Complies with Manufacturer's Recommendation.; DrillSize: Nominal, Complies with Manufacturer's Recommendation.; Published: 19-Mar-2004; DatasheetDocument: 4-Feb-2002; PackageReference: CAPPRS10-35X25; Publisher: Altium Limited; ComponentLink1Description: Manufacturer Link; ComponentLink1URL: http://www.vishay.com/; ComponentLink2Description: Datasheet; ComponentLink2URL: http://www.vishay.com/docs/25137/eyn.pdf; Value: 180uF
footprint CAPPRS10-35X25 (Capacitor, Electrolytic, Radial, Snap-In Pins; Body 35 x 25 mm (Dia.xH typ); Pin Spacing 10 mm (typ))
simulation model CAP (Capacitor)
signal-integrity model EYN07CU318P02
pins: 1, 2
1 alternate drawing of the same symbol

## EYN07CU318X02
designator C?
Aluminum Electrolytic Capacitor, Power Capacitor Style EYN, Snap-in 6mm Solder Pins: 180uF, 400V; PCB_Layout: Complies with Manufacturer's Recommendation.; DrillSize: Nominal, Complies with Manufacturer's Recommendation.; Published: 19-Mar-2004; DatasheetDocument: 4-Feb-2002; PackageReference: CAPPRS10-35X25; Publisher: Altium Limited; ComponentLink1Description: Manufacturer Link; ComponentLink1URL: http://www.vishay.com/; ComponentLink2Description: Datasheet; ComponentLink2URL: http://www.vishay.com/docs/25137/eyn.pdf; Value: 180uF
footprint CAPPRS10-35X25 (Capacitor, Electrolytic, Radial, Snap-In Pins; Body 35 x 25 mm (Dia.xH typ); Pin Spacing 10 mm (typ))
simulation model CAP (Capacitor)
signal-integrity model EYN07CU318X02
pins: 1, 2
1 alternate drawing of the same symbol

## EYN07CU322O02
designator C?
Aluminum Electrolytic Capacitor, Power Capacitor Style EYN, Snap-in 6mm Solder Pins: 220uF, 350V; PCB_Layout: Complies with Manufacturer's Recommendation.; DrillSize: Nominal, Complies with Manufacturer's Recommendation.; Published: 19-Mar-2004; DatasheetDocument: 4-Feb-2002; PackageReference: CAPPRS10-35X25; Publisher: Altium Limited; ComponentLink1Description: Manufacturer Link; ComponentLink1URL: http://www.vishay.com/; ComponentLink2Description: Datasheet; ComponentLink2URL: http://www.vishay.com/docs/25137/eyn.pdf; Value: 220uF
footprint CAPPRS10-35X25 (Capacitor, Electrolytic, Radial, Snap-In Pins; Body 35 x 25 mm (Dia.xH typ); Pin Spacing 10 mm (typ))
simulation model CAP (Capacitor)
signal-integrity model EYN07CU322O02
pins: 1, 2
1 alternate drawing of the same symbol

## EYN07CU322X02
designator C?
Aluminum Electrolytic Capacitor, Power Capacitor Style EYN, Snap-in 6mm Solder Pins: 220uF, 400V; PCB_Layout: Complies with Manufacturer's Recommendation.; DrillSize: Nominal, Complies with Manufacturer's Recommendation.; Published: 19-Mar-2004; DatasheetDocument: 4-Feb-2002; PackageReference: CAPPRS10-35X25; Publisher: Altium Limited; ComponentLink1Description: Manufacturer Link; ComponentLink1URL: http://www.vishay.com/; ComponentLink2Description: Datasheet; ComponentLink2URL: http://www.vishay.com/docs/25137/eyn.pdf; Value: 220uF
footprint CAPPRS10-35X25 (Capacitor, Electrolytic, Radial, Snap-In Pins; Body 35 x 25 mm (Dia.xH typ); Pin Spacing 10 mm (typ))
simulation model CAP (Capacitor)
signal-integrity model EYN07CU322X02
pins: 1, 2
1 alternate drawing of the same symbol

## EYN07CU327O02
designator C?
Aluminum Electrolytic Capacitor, Power Capacitor Style EYN, Snap-in 6mm Solder Pins: 270uF, 350V; PCB_Layout: Complies with Manufacturer's Recommendation.; DrillSize: Nominal, Complies with Manufacturer's Recommendation.; Published: 19-Mar-2004; DatasheetDocument: 4-Feb-2002; PackageReference: CAPPRS10-35X25; Publisher: Altium Limited; ComponentLink1Description: Manufacturer Link; ComponentLink1URL: http://www.vishay.com/; ComponentLink2Description: Datasheet; ComponentLink2URL: http://www.vishay.com/docs/25137/eyn.pdf; Value: 270uF
footprint CAPPRS10-35X25 (Capacitor, Electrolytic, Radial, Snap-In Pins; Body 35 x 25 mm (Dia.xH typ); Pin Spacing 10 mm (typ))
simulation model CAP (Capacitor)
signal-integrity model EYN07CU327O02
pins: 1, 2
1 alternate drawing of the same symbol

## EYN07CU347N02
designator C?
Aluminum Electrolytic Capacitor, Power Capacitor Style EYN, Snap-in 6mm Solder Pins: 470uF, 250V; PCB_Layout: Complies with Manufacturer's Recommendation.; DrillSize: Nominal, Complies with Manufacturer's Recommendation.; Published: 19-Mar-2004; DatasheetDocument: 4-Feb-2002; PackageReference: CAPPRS10-35X25; Publisher: Altium Limited; ComponentLink1Description: Manufacturer Link; ComponentLink1URL: http://www.vishay.com/; ComponentLink2Description: Datasheet; ComponentLink2URL: http://www.vishay.com/docs/25137/eyn.pdf; Value: 470uF
footprint CAPPRS10-35X25 (Capacitor, Electrolytic, Radial, Snap-In Pins; Body 35 x 25 mm (Dia.xH typ); Pin Spacing 10 mm (typ))
simulation model CAP (Capacitor)
signal-integrity model EYN07CU347N02
pins: 1, 2
1 alternate drawing of the same symbol

## EYN07CU356N02
designator C?
Aluminum Electrolytic Capacitor, Power Capacitor Style EYN, Snap-in 6mm Solder Pins: 560uF, 250V; PCB_Layout: Complies with Manufacturer's Recommendation.; DrillSize: Nominal, Complies with Manufacturer's Recommendation.; Published: 19-Mar-2004; DatasheetDocument: 4-Feb-2002; PackageReference: CAPPRS10-35X25; Publisher: Altium Limited; ComponentLink1Description: Manufacturer Link; ComponentLink1URL: http://www.vishay.com/; ComponentLink2Description: Datasheet; ComponentLink2URL: http://www.vishay.com/docs/25137/eyn.pdf; Value: 560uF
footprint CAPPRS10-35X25 (Capacitor, Electrolytic, Radial, Snap-In Pins; Body 35 x 25 mm (Dia.xH typ); Pin Spacing 10 mm (typ))
simulation model CAP (Capacitor)
signal-integrity model EYN07CU356N02
pins: 1, 2
1 alternate drawing of the same symbol

## EYN07CU356S02
designator C?
Aluminum Electrolytic Capacitor, Power Capacitor Style EYN, Snap-in 6mm Solder Pins: 560uF, 200V; PCB_Layout: Complies with Manufacturer's Recommendation.; DrillSize: Nominal, Complies with Manufacturer's Recommendation.; Published: 19-Mar-2004; DatasheetDocument: 4-Feb-2002; PackageReference: CAPPRS10-35X25; Publisher: Altium Limited; ComponentLink1Description: Manufacturer Link; ComponentLink1URL: http://www.vishay.com/; ComponentLink2Description: Datasheet; ComponentLink2URL: http://www.vishay.com/docs/25137/eyn.pdf; Value: 560uF
footprint CAPPRS10-35X25 (Capacitor, Electrolytic, Radial, Snap-In Pins; Body 35 x 25 mm (Dia.xH typ); Pin Spacing 10 mm (typ))
simulation model CAP (Capacitor)
signal-integrity model EYN07CU356S02
pins: 1, 2
1 alternate drawing of the same symbol

## EYN07CU368S02
designator C?
Aluminum Electrolytic Capacitor, Power Capacitor Style EYN, Snap-in 6mm Solder Pins: 680uF, 200V; PCB_Layout: Complies with Manufacturer's Recommendation.; DrillSize: Nominal, Complies with Manufacturer's Recommendation.; Published: 19-Mar-2004; DatasheetDocument: 4-Feb-2002; PackageReference: CAPPRS10-35X25; Publisher: Altium Limited; ComponentLink1Description: Manufacturer Link; ComponentLink1URL: http://www.vishay.com/; ComponentLink2Description: Datasheet; ComponentLink2URL: http://www.vishay.com/docs/25137/eyn.pdf; Value: 680uF
footprint CAPPRS10-35X25 (Capacitor, Electrolytic, Radial, Snap-In Pins; Body 35 x 25 mm (Dia.xH typ); Pin Spacing 10 mm (typ))
simulation model CAP (Capacitor)
signal-integrity model EYN07CU368S02
pins: 1, 2
1 alternate drawing of the same symbol

## EYN07CU382M02
designator C?
Aluminum Electrolytic Capacitor, Power Capacitor Style EYN, Snap-in 6mm Solder Pins: 820uF, 160V; PCB_Layout: Complies with Manufacturer's Recommendation.; DrillSize: Nominal, Complies with Manufacturer's Recommendation.; Published: 19-Mar-2004; DatasheetDocument: 4-Feb-2002; PackageReference: CAPPRS10-35X25; Publisher: Altium Limited; ComponentLink1Description: Manufacturer Link; ComponentLink1URL: http://www.vishay.com/; ComponentLink2Description: Datasheet; ComponentLink2URL: http://www.vishay.com/docs/25137/eyn.pdf; Value: 820uF
footprint CAPPRS10-35X25 (Capacitor, Electrolytic, Radial, Snap-In Pins; Body 35 x 25 mm (Dia.xH typ); Pin Spacing 10 mm (typ))
simulation model CAP (Capacitor)
signal-integrity model EYN07CU382M02
pins: 1, 2
1 alternate drawing of the same symbol

## EYN07CU410M02
designator C?
Aluminum Electrolytic Capacitor, Power Capacitor Style EYN, Snap-in 6mm Solder Pins: 1000uF, 160V; PCB_Layout: Complies with Manufacturer's Recommendation.; DrillSize: Nominal, Complies with Manufacturer's Recommendation.; Published: 19-Mar-2004; DatasheetDocument: 4-Feb-2002; PackageReference: CAPPRS10-35X25; Publisher: Altium Limited; ComponentLink1Description: Manufacturer Link; ComponentLink1URL: http://www.vishay.com/; ComponentLink2Description: Datasheet; ComponentLink2URL: http://www.vishay.com/docs/25137/eyn.pdf; Value: 1000uF
footprint CAPPRS10-35X25 (Capacitor, Electrolytic, Radial, Snap-In Pins; Body 35 x 25 mm (Dia.xH typ); Pin Spacing 10 mm (typ))
simulation model CAP (Capacitor)
signal-integrity model EYN07CU410M02
pins: 1, 2
1 alternate drawing of the same symbol

## EYN07CU447H02
designator C?
Aluminum Electrolytic Capacitor, Power Capacitor Style EYN, Snap-in 6mm Solder Pins: 4700uF, 50V; PCB_Layout: Complies with Manufacturer's Recommendation.; DrillSize: Nominal, Complies with Manufacturer's Recommendation.; Published: 19-Mar-2004; DatasheetDocument: 4-Feb-2002; PackageReference: CAPPRS10-35X25; Publisher: Altium Limited; ComponentLink1Description: Manufacturer Link; ComponentLink1URL: http://www.vishay.com/; ComponentLink2Description: Datasheet; ComponentLink2URL: http://www.vishay.com/docs/25137/eyn.pdf; Value: 4700uF
footprint CAPPRS10-35X25 (Capacitor, Electrolytic, Radial, Snap-In Pins; Body 35 x 25 mm (Dia.xH typ); Pin Spacing 10 mm (typ))
simulation model CAP (Capacitor)
signal-integrity model EYN07CU447H02
pins: 1, 2
1 alternate drawing of the same symbol

## EYN07CU456H02
designator C?
Aluminum Electrolytic Capacitor, Power Capacitor Style EYN, Snap-in 6mm Solder Pins: 5600uF, 50V; PCB_Layout: Complies with Manufacturer's Recommendation.; DrillSize: Nominal, Complies with Manufacturer's Recommendation.; Published: 19-Mar-2004; DatasheetDocument: 4-Feb-2002; PackageReference: CAPPRS10-35X25; Publisher: Altium Limited; ComponentLink1Description: Manufacturer Link; ComponentLink1URL: http://www.vishay.com/; ComponentLink2Description: Datasheet; ComponentLink2URL: http://www.vishay.com/docs/25137/eyn.pdf; Value: 5600uF
footprint CAPPRS10-35X25 (Capacitor, Electrolytic, Radial, Snap-In Pins; Body 35 x 25 mm (Dia.xH typ); Pin Spacing 10 mm (typ))
simulation model CAP (Capacitor)
signal-integrity model EYN07CU456H02
pins: 1, 2
1 alternate drawing of the same symbol

## EYN07CU527D02
designator C?
Aluminum Electrolytic Capacitor, Power Capacitor Style EYN, Snap-in 6mm Solder Pins: 27000uF, 16V; PCB_Layout: Complies with Manufacturer's Recommendation.; DrillSize: Nominal, Complies with Manufacturer's Recommendation.; Published: 19-Mar-2004; DatasheetDocument: 4-Feb-2002; PackageReference: CAPPRS10-35X25; Publisher: Altium Limited; ComponentLink1Description: Manufacturer Link; ComponentLink1URL: http://www.vishay.com/; ComponentLink2Description: Datasheet; ComponentLink2URL: http://www.vishay.com/docs/25137/eyn.pdf; Value: 27000uF
footprint CAPPRS10-35X25 (Capacitor, Electrolytic, Radial, Snap-In Pins; Body 35 x 25 mm (Dia.xH typ); Pin Spacing 10 mm (typ))
simulation model CAP (Capacitor)
signal-integrity model EYN07CU527D02
pins: 1, 2
1 alternate drawing of the same symbol

## EYN07CU533C02
designator C?
Aluminum Electrolytic Capacitor, Power Capacitor Style EYN, Snap-in 6mm Solder Pins: 33000uF, 10V; PCB_Layout: Complies with Manufacturer's Recommendation.; DrillSize: Nominal, Complies with Manufacturer's Recommendation.; Published: 19-Mar-2004; DatasheetDocument: 4-Feb-2002; PackageReference: CAPPRS10-35X25; Publisher: Altium Limited; ComponentLink1Description: Manufacturer Link; ComponentLink1URL: http://www.vishay.com/; ComponentLink2Description: Datasheet; ComponentLink2URL: http://www.vishay.com/docs/25137/eyn.pdf; Value: 33000uF
footprint CAPPRS10-35X25 (Capacitor, Electrolytic, Radial, Snap-In Pins; Body 35 x 25 mm (Dia.xH typ); Pin Spacing 10 mm (typ))
simulation model CAP (Capacitor)
signal-integrity model EYN07CU533C02
pins: 1, 2
1 alternate drawing of the same symbol